# Altium footprint library MiniTV.PcbLib: 3 footprints
Each footprint in its own frame and in the unit in brackets; x right, y up, seen from the top. Pads: shape width x height; smd on the part's side, far side on the other; paste and mask are expansions set on the pad; w line width, h text height; cw(c..) or ccw(c..) is an arc to the next point about the centre after c.
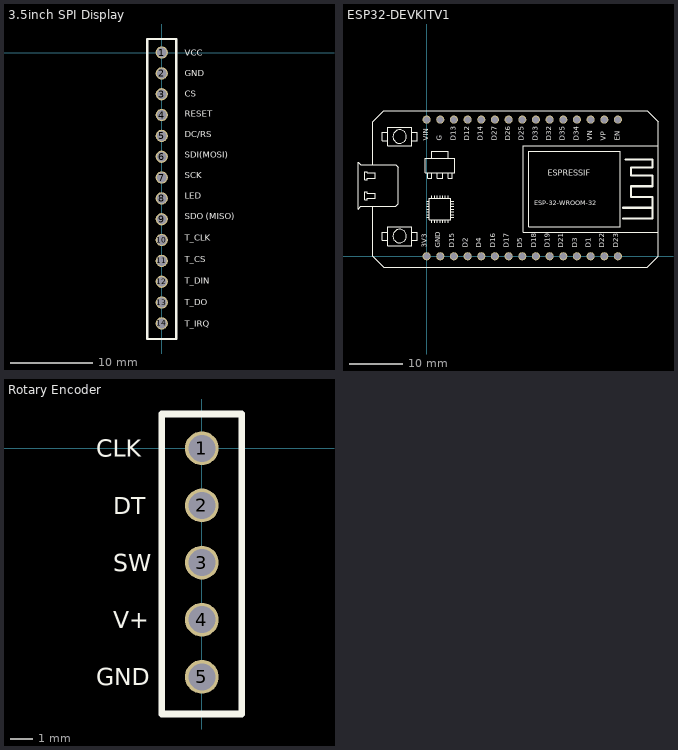
[diagram p0: the footprints below, top view; thin cyan lines are the x and y axes]

## 3.5inch SPI Display [mm]
pads (14):
  round 1.5 hole 1.2: 1(0,0) 2(0,-2.54) 3(0,-5.08) 4(0,-7.62) 5(0,-10.16) 6(0,-12.7) 7(0,-15.24) 8(0,-17.78) 9(0,-20.32) 10(0,-22.86) 11(0,-25.4) 12(0,-27.94) 13(0,-30.48) 14(0,-33.02)
Top Overlay:
  lines w0.3: -1.778,-34.925 -1.778,-10.668 -1.778,1.651 1.778,1.651 1.778,-34.925 -1.778,-34.925
  text "VCC" at 2.794,-0.381 h0.76
  text "GND" at 2.794,-2.872 h0.76
  text "CS" at 2.794,-5.363 h0.76
  text "RESET" at 2.794,-7.855 h0.76
  text "DC/RS" at 2.794,-10.346 h0.76
  text "SDI(MOSI)" at 2.794,-12.837 h0.76
  text "SCK" at 2.794,-15.328 h0.76
  text "LED" at 2.794,-17.819 h0.76
  text "SDO (MISO)" at 2.794,-20.31 h0.76
  text "T_CLK" at 2.794,-22.929 h0.76
  text "T_CS" at 2.794,-25.547 h0.76
  text "T_DIN" at 2.794,-28.165 h0.76
  text "T_DO" at 2.794,-30.783 h0.76
  text "T_IRQ" at 2.794,-33.401 h0.76

## ESP32-DEVKITV1 [mm]
pads (30):
  round 1.5 hole 1.2: 3V3(0,0) D1(30.48,0) D2(7.62,0) D3(27.94,0) D4(10.16,0) D5(17.78,0) D12(7.62,25.4) D13(5.08,25.4) D14(10.16,25.4) D15(5.08,0) D16(12.7,0) D17(15.24,0) D18(20.32,0) D19(22.86,0) D21(25.4,0) D22(33.02,0) D23(35.56,0) D25(17.78,25.4) D26(15.24,25.4) D27(12.7,25.4) D32(22.86,25.4) D33(20.32,25.4) D34(27.94,25.4) D35(25.4,25.4) EN(35.56,25.4) GND(2.54,25.4) GND@1(2.54,0) VIN(0,25.4) VN(30.48,25.4) VP(33.02,25.4)
Top Overlay:
  drawing of 170 lines, arcs and shapes, not listed
  text "D35" at 26.07,21.47 h1.57
  text "D33" at 20.99,21.47 h1.57
  text "D25" at 18.45,21.47 h1.57
  text "D32" at 23.53,21.47 h1.57
  text "D34" at 28.61,21.47 h1.57
  text "VN" at 31.15,21.47 h1.57
  text "VP" at 33.69,21.47 h1.57
  text "EN" at 36.23,21.47 h1.57
  text "ESPRESSIF" at 22.5,15 h1.08
  text "D26" at 15.91,21.47 h1.57
  text "D13" at 5.75,21.47 h1.57
  text "D12" at 8.29,21.47 h1.57
  text "D27" at 13.37,21.47 h1.57
  text "D14" at 10.83,21.47 h1.57
  text "G" at 3.21,21.47 h1.57
  text "ESP-32-WROOM-32" at 20,9.5 h0.86
  text "D16" at 13.1,1.54 h1.57
  text "D19" at 23.26,1.54 h1.57
  text "D15" at 5.48,1.54 h1.57
  text "D23" at 35.96,1.54 h1.57
  text "D18" at 20.72,1.54 h1.57
  text "D21" at 25.8,1.54 h1.57
  text "D22" at 33.42,1.54 h1.57
  text "D17" at 15.64,1.54 h1.57
  text "D5" at 18.18,1.54 h1.57
  text "D3" at 28.34,1.54 h1.57
  text "D1" at 30.88,1.54 h1.57
  text "D2" at 8.02,1.54 h1.57
  text "D4" at 10.56,1.54 h1.57
  text "GND" at 2.94,1.54 h1.57
  text "VIN" at 0.67,21.47 h1.57
  text "3V3" at 0.4,1.54 h1.57
Mechanical 5:
  text "ESP32-DEVKITV1" at 26.36,-4.54 h1.97
Mechanical 8:
  text "ESP32-Devkit V1" at 28.92,12.31 h2.99

## Rotary Encoder [mm]
pads (5):
  round 1.5 hole 1.2: 1(0,0) 2(0,-2.54) 3(0,-5.08) 4(0,-7.62) 5(0,-10.16)
Top Overlay:
  lines w0.3: -1.778,-11.811 1.778,-11.811 1.778,1.524 -1.778,1.524 -1.778,-10.795 -1.778,-11.811
  text "CLK" at -4.698,-0.381 h0.76
  text "DT" at -3.937,-2.921 h0.76
  text "SW" at -3.937,-5.461 h0.76
  text "V+" at -3.937,-8.001 h0.76
  text "GND" at -4.698,-10.541 h0.76